# EAGLE library part LCD_SPI (library vincent)
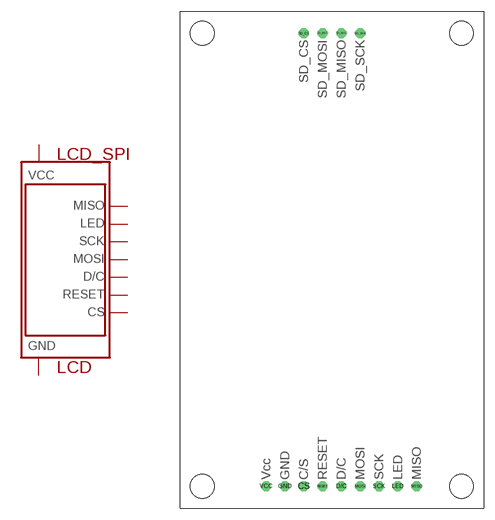
[diagram p11: symbol with the pads of LCD_2.2_SD_SPI_LI9340C; footprint LCD_2.2_SD_SPI_LI9340C]

Designator prefix LCD

## LCD_SPI2.2_LI9340C  [LCD_2.2_SD_SPI_LI9340C]
CS  CS
D/C  D/C
GND  GND
LED  LED
MISO  MISO
MOSI  MOSI
RESET  RESET
SCK  SCK
VCC  VCC

## Footprint LCD_2.2_SD_SPI_LI9340C (pad centres in mm)
drill 0.8 octagon: CS -3.81,-30.6; D/C 1.27,-30.6; GND -6.35,-30.6; LED 8.89,-30.6; MISO 11.43,-30.6; MOSI 3.81,-30.6; RESET -1.27,-30.6; SCK 6.35,-30.6; SD_CS -3.81,30.6; SD_MISO 1.27,30.6; SD_MOSI -1.27,30.6; SD_SCK 3.81,30.6; VCC -8.89,-30.6
hole 3.2 at -17.5,30.6
hole 3.2 at 17.5,30.6
hole 3.2 at 17.5,-30.6
hole 3.2 at -17.5,-30.6